# Altium schematic symbol library SCH - PASSIVES - CAPACITOR - EEE-FK1V331P.SCHLIB: 1 symbol
Pins are listed as number, name and electrical type; pins without a type are passive.

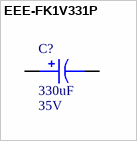
[diagram p0: symbol EEE-FK1V331P]

## EEE-FK1V331P
designator C?, comment 330uF  Voltage: 35V
CAP ELCO 330uF 35V 20% F; Manufacturer: Panasonic; Manufacturer Part Number: EEE-FK1V331P; Dielectric: Electrolyte; Type: Electrolytic; ESR: 0.16; Category: elcos; Value: 330uF; Package: F; Supplier 1: Mouser; Supplier Part Number 1: 667-EEE-FK1V331P; Tolerance: 20%; Mounting Style: SMT; Created: 2020-09-23_MGremer
footprint CAPAE1030X1050N
pins: 1, 2